# EAGLE library part DS1307ZN+ (library debauer_ics)
64 x 8, Serial, I2C Real-Time Clock
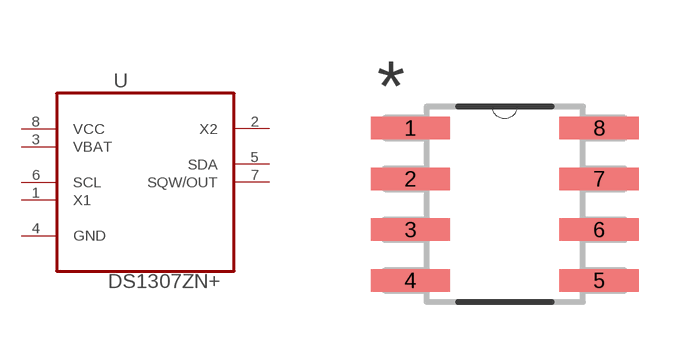
[diagram p20: symbol with the pads of SOIC127P600X175-8N; footprint SOIC127P600X175-8N]

Designator prefix U

## DS1307ZN+ (MPN: DS1307ZN+; OC_FARNELL: 9725253; OC_NEWARK: 96K8872; PACKAGE: SOIC-8; SUPPLIER: Maxim)  [SOIC127P600X175-8N]
1  X1  in
2  X2  out
3  VBAT  in
4  GND  pas
5  SDA
6  SCL  in
7  SQW/OUT
8  VCC  pwr

## Footprint SOIC127P600X175-8N (pad centres in mm)
smd 1.981 x 0.559: 1 -2.362,1.905; 2 -2.362,0.635; 3 -2.362,-0.635; 4 -2.362,-1.905; 5 2.362,-1.905; 6 2.362,-0.635; 7 2.362,0.635; 8 2.362,1.905